# Altium footprint library PCB1.PcbLib: 38 footprints (part 3 of 3)
Each footprint in its own frame and in the unit in brackets; x right, y up, seen from the top. Pads: shape width x height; smd on the part's side, far side on the other; paste and mask are expansions set on the pad; w line width, h text height; cw(c..) or ccw(c..) is an arc to the next point about the centre after c.
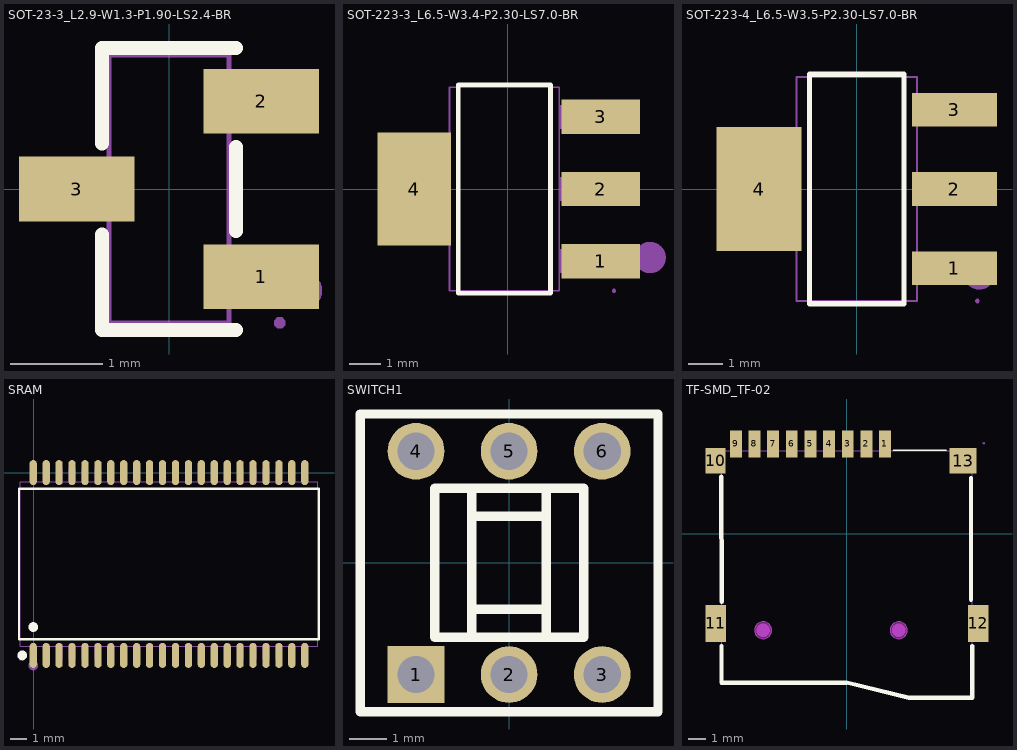
[diagram p2: the footprints below, top view; thin cyan lines are the x and y axes]

## SOT-23-3_L2.9-W1.3-P1.90-LS2.4-BR [mm]
pads (3):
  rect 1.25x0.7 smd: 1(1,-0.95) 2(1,0.95) 3(-1,0)
Top Overlay:
  lines w0.152: -0.726,-0.495 -0.726,-1.526 0.726,-1.526 ; -0.726,0.495 -0.726,1.526 0.726,1.526 ; 0.726,-0.455 0.726,0.455
Mechanical 6:
  circle w0.2: c1.46,-1.1 r0.1
Mechanical 15:
  region: -1.2,-0.215 -1.2,0.215 -0.9,0.215 -0.9,-0.215
  region: -0.91,-0.215 -0.91,0.215 -0.64,0.215 -0.64,-0.215
  region: 0.9,-1.165 0.9,-0.735 1.2,-0.735 1.2,-1.165
  region: 0.64,-1.165 0.64,-0.735 0.91,-0.735 0.91,-1.165
  region: 0.9,0.735 0.9,1.165 1.2,1.165 1.2,0.735
  region: 0.64,0.735 0.64,1.165 0.91,1.165 0.91,0.735
  region: 1.26,-1.45 1.26,-1.425 1.225,-1.39 1.175,-1.39 1.14,-1.425 1.14,-1.45 1.14,-1.475 1.175,-1.51 1.225,-1.51 1.26,-1.475 1.26,-1.45
  lines w0.051: -0.65,-1.45 0.65,-1.45 0.65,1.45 -0.65,1.45 -0.65,-1.45

## SOT-223-3_L6.5-W3.4-P2.30-LS7.0-BR [mm]
pads (4):
  rect 2.5x1.1 smd: 1(2.97,-2.3) 2(2.97,0) 3(2.97,2.3)
  rect 2.34x3.6 smd: 4(-2.97,0)
Top Overlay:
  lines w0.152: -1.571,-3.326 -1.571,3.326 1.371,3.326 1.371,-3.326 -1.571,-3.326
Mechanical 6:
  circle w0.5: c4.552,-2.188 r0.25
Mechanical 15:
  region: 3.4,-3.19 3.375,-3.19 3.34,-3.225 3.34,-3.275 3.375,-3.31 3.4,-3.31 3.425,-3.31 3.46,-3.275 3.46,-3.225 3.425,-3.19 3.4,-3.19
  region: 1.64,1.925 1.64,2.675 2.66,2.675 2.66,1.925
  region: 2.65,1.925 2.65,2.675 3.4,2.675 3.4,1.925
  region: 1.64,-0.375 1.64,0.375 2.66,0.375 2.66,-0.375
  region: 2.65,-0.375 2.65,0.375 3.4,0.375 3.4,-0.375
  region: 1.64,-2.675 1.64,-1.925 2.66,-1.925 2.66,-2.675
  region: 2.65,-2.675 2.65,-1.925 3.4,-1.925 3.4,-2.675
  region: -2.86,-1.5 -2.86,1.5 -1.84,1.5 -1.84,-1.5
  region: -3.6,-1.5 -3.6,1.5 -2.85,1.5 -2.85,-1.5
  lines w0.051: -1.85,-3.25 -1.85,3.25 1.65,3.25 1.65,-3.25 -1.85,-3.25

## SOT-223-4_L6.5-W3.5-P2.30-LS7.0-BR [mm]
pads (4):
  rect 2.47x0.98 smd: 1(2.835,-2.3) 2(2.835,0) 3(2.835,2.3)
  rect 2.47x3.6 smd: 4(-2.835,0)
Top Overlay:
  lines w0.152: -1.371,-3.326 1.371,-3.326 1.371,3.326 -1.371,3.326 -1.371,-3.326
Mechanical 6:
  circle w0.5: c3.556,-2.413 r0.25
Mechanical 15:
  region: -2.56,-1.5 -2.56,1.5 -1.74,1.5 -1.74,-1.5
  region: -2.55,-1.5 -2.55,1.5 -3.5,1.5 -3.5,-1.5
  region: 1.74,1.95 1.74,2.65 2.56,2.65 2.56,1.95
  region: 2.55,1.95 2.55,2.65 3.5,2.65 3.5,1.95
  region: 1.74,-0.35 1.74,0.35 2.56,0.35 2.56,-0.35
  region: 2.55,-0.35 2.55,0.35 3.5,0.35 3.5,-0.35
  region: 1.74,-2.65 1.74,-1.95 2.56,-1.95 2.56,-2.65
  region: 2.55,-2.65 2.55,-1.95 3.5,-1.95 3.5,-2.65
  region: 3.5,-3.19 3.475,-3.19 3.44,-3.225 3.44,-3.275 3.475,-3.31 3.5,-3.31 3.525,-3.31 3.56,-3.275 3.56,-3.225 3.525,-3.19 3.5,-3.19
  lines w0.051: -1.75,-3.25 1.75,-3.25 1.75,3.25 -1.75,3.25 -1.75,-3.25

## SRAM [mm]
pads (44):
  oval 0.448x1.551 smd: 1(-0.025,-11.311) 2(0.775,-11.311) 3(1.575,-11.311) 4(2.375,-11.311) 5(3.175,-11.311) 6(3.975,-11.311) 7(4.775,-11.311) 8(5.575,-11.311) 9(6.375,-11.311) 10(7.175,-11.311) 11(7.975,-11.311) 12(8.775,-11.311) 13(9.575,-11.311) 14(10.375,-11.311) 15(11.175,-11.311) 16(11.975,-11.311) 17(12.775,-11.311) 18(13.575,-11.311) 19(14.375,-11.311) 20(15.175,-11.311) 21(15.975,-11.311) 22(16.775,-11.311) 23(16.775,0) 24(15.975,0) 25(15.175,0) 26(14.375,0) 27(13.575,0) 28(12.775,0) 29(11.975,0) 30(11.175,0) 31(10.375,0) 32(9.575,0) 33(8.775,0) 34(7.975,0) 35(7.175,0) 36(6.375,0) 37(5.575,0) 38(4.775,0) 39(3.975,0) 40(3.175,0) 41(2.375,0) 42(1.575,0) 43(0.775,0) 44(-0.025,0)
Top Overlay:
  circle w0.3: c-0.025,-9.554 r0.15
  circle w0.3: c-0.702,-11.311 r0.15
  lines w0.152: -0.906,-10.307 -0.906,-1.004 17.656,-1.004 17.656,-10.307 -0.906,-10.307
Mechanical 6:
  circle w0.3: c-0.025,-11.935 r0.15
Mechanical 15:
  drawing of 93 lines, arcs and shapes, not listed

## SWITCH1 [mm]
pads (6):
  rect 1.524x1.524 hole 1: 1(-2.5,-3)
  round 1.524 hole 1: 2(0,-3) 3(2.5,-3) 4(-2.5,3) 5(0,3) 6(2.5,3)
Top Overlay:
  lines w0.254: -1,-2 -1,2 ; -1,-1.25 1,-1.25 ; -1,1.25 1,1.25 ; 1,-2 1,2 ; -4,-4 -4,4 4,4 4,-4 -4,-4 ; -2,-2 -2,2 2,2 2,-2 -2,-2
Mechanical 15:
  region: -2.8,-2.85 -2.2,-2.85 -2.2,-3.15 -2.8,-3.15
  region: -0.3,-2.85 0.3,-2.85 0.3,-3.15 -0.3,-3.15
  region: 2.2,-2.85 2.8,-2.85 2.8,-3.15 2.2,-3.15
  region: 2.2,3.15 2.8,3.15 2.8,2.85 2.2,2.85
  region: -0.3,3.15 0.3,3.15 0.3,2.85 -0.3,2.85
  region: -2.8,3.15 -2.2,3.15 -2.2,2.85 -2.8,2.85
  region: -3.94,-4 -3.94,-3.975 -3.975,-3.94 -4.025,-3.94 -4.06,-3.975 -4.06,-4 -4.06,-4.025 -4.025,-4.06 -3.975,-4.06 -3.94,-4.025 -3.94,-4
  lines w0.051: -4,-4 4,-4 4,4 -4,4 -4,-4

## TF-SMD_TF-02 [mm]
pads (13):
  rect 0.7x1.6 smd: 1(2.245,5.3) 2(1.145,5.3) 3(0.046,5.3) 4(-1.054,5.3) 5(-2.154,5.3) 6(-3.255,5.3) 7(-4.354,5.3) 8(-5.454,5.3) 9(-6.554,5.3)
  rect 1.2x1.5 smd: 10(-7.754,4.3)
  rect 1.2x2.2 smd: 11(-7.746,-5.3) 12(7.754,-5.3)
  rect 1.6x1.5 smd: 13(6.854,4.3)
Top Overlay:
  lines w0.102: 2.74,4.926 5.839,4.927
  lines w0.254: -7.413,3.359 -7.394,-4.018 ; -7.395,-6.63 -7.395,-8.789 -0.021,-8.789 3.639,-9.681 7.391,-9.681 7.391,-6.63 ; 7.319,-3.908 7.319,3.28
Keep-Out Layer:
  board cut-out: 3.054,-6.2 3.153,-6.2 3.337,-6.124 3.478,-5.983 3.554,-5.799 3.554,-5.601 3.478,-5.417 3.337,-5.276 3.153,-5.2 3.054,-5.2 2.955,-5.2 2.771,-5.276 2.63,-5.417 2.554,-5.601 2.554,-5.799 2.63,-5.983 2.771,-6.124 2.955,-6.2 3.054,-6.2
  board cut-out: -4.946,-6.2 -4.847,-6.2 -4.663,-6.124 -4.522,-5.983 -4.446,-5.799 -4.446,-5.601 -4.522,-5.417 -4.663,-5.276 -4.847,-5.2 -4.946,-5.2 -5.045,-5.2 -5.229,-5.276 -5.37,-5.417 -5.446,-5.601 -5.446,-5.799 -5.37,-5.983 -5.229,-6.124 -5.045,-6.2 -4.946,-6.2
Mechanical 1:
  circle w0.005: c3.054,-5.7 r0.5
  circle w0.005: c-4.946,-5.7 r0.5
Mechanical 6:
  circle w0.4: c-4.946,-5.7 r0.2
  circle w0.4: c3.054,-5.7 r0.2
Mechanical 15:
  region: 8.084,5.277 8.109,5.277 8.144,5.312 8.144,5.362 8.109,5.397 8.084,5.397 8.059,5.397 8.024,5.362 8.024,5.312 8.059,5.277 8.084,5.277
  region: 6.613,4.789 7.263,4.789 7.263,3.789 6.613,3.789
  region: -8.071,3.789 -8.071,4.789 -7.371,4.789 -7.371,3.789
  region: -8.076,-4.5 -7.276,-4.5 -7.276,-6.1 -8.076,-6.1
  region: 7.284,-4.5 8.084,-4.5 8.084,-6.1 7.284,-6.1
  region: 2.095,5.478 2.395,5.478 2.395,4.828 2.095,4.828
  region: 0.995,5.478 1.295,5.478 1.295,4.828 0.995,4.828
  region: -0.104,5.478 0.196,5.478 0.196,4.828 -0.104,4.828
  region: -1.204,5.478 -0.904,5.478 -0.904,4.828 -1.204,4.828
  region: -2.304,5.478 -2.004,5.478 -2.004,4.828 -2.304,4.828
  region: -3.405,5.478 -3.105,5.478 -3.105,4.828 -3.405,4.828
  region: -4.504,5.478 -4.204,5.478 -4.204,4.828 -4.504,4.828
  region: -5.604,5.478 -5.304,5.478 -5.304,4.828 -5.604,4.828
  region: -6.704,5.478 -6.404,5.478 -6.404,4.828 -6.704,4.828
  lines w0.051: -7.376,-8.788 -7.376,4.878 7.384,4.878 7.384,-9.622 3.636,-9.678 1.656,-9.091 0.128,-8.824 -1.074,-8.788 -7.376,-8.788
Multi-Layer keep-out:
  region: 3.054,-6.2 3.153,-6.2 3.337,-6.124 3.478,-5.983 3.554,-5.799 3.554,-5.601 3.478,-5.417 3.337,-5.276 3.153,-5.2 3.054,-5.2 2.955,-5.2 2.771,-5.276 2.63,-5.417 2.554,-5.601 2.554,-5.799 2.63,-5.983 2.771,-6.124 2.955,-6.2 3.054,-6.2
  region: -4.946,-6.2 -4.847,-6.2 -4.663,-6.124 -4.522,-5.983 -4.446,-5.799 -4.446,-5.601 -4.522,-5.417 -4.663,-5.276 -4.847,-5.2 -4.946,-5.2 -5.045,-5.2 -5.229,-5.276 -5.37,-5.417 -5.446,-5.601 -5.446,-5.799 -5.37,-5.983 -5.229,-6.124 -5.045,-6.2 -4.946,-6.2